# EAGLE library part MTFC (library micron)
4GB / 8GB, 2.7-3.6V e.MMC Flash This product family is compatible with JEDEC e.MMC 4.51 specification and is backwards compatible with previous e.MMC specifications. This product supports the HS200 speed mode and is available in 4GB - 8GB densities. Package options include 100 ball LBGA (14 x 18mm, 1.0mm ball pitch).
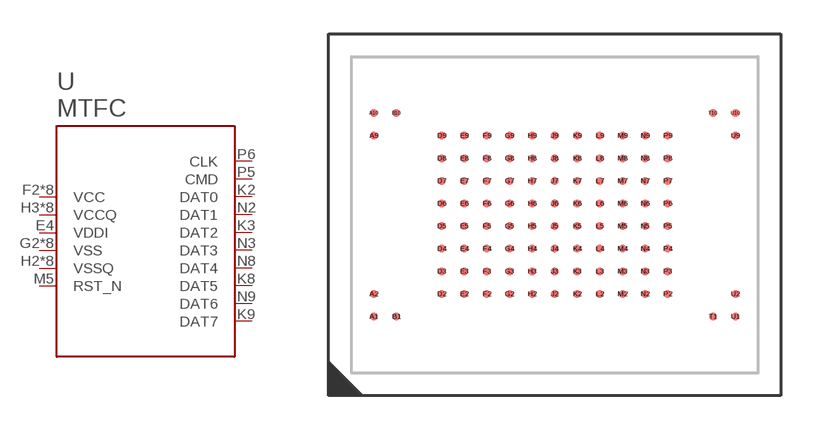
[diagram p0: symbol with the pads of LBGA-100-18X14; footprint LBGA-100-18X14]

Designator prefix U

## MTFCXGACAANA-4MIT  [LBGA-100-18X14]
E4  VDDI  pwr
F2  VCC  pwr
F3  VCC  pwr
F4  VCC  pwr
F5  VCC  pwr
F6  VCC  pwr
F7  VCC  pwr
F8  VCC  pwr
F9  VCC  pwr
G2  VSS  pwr
G3  VSS  pwr
G4  VSS  pwr
G5  VSS  pwr
G6  VSS  pwr
G7  VSS  pwr
G8  VSS  pwr
G9  VSS  pwr
H2  VSSQ  pwr
H3  VCCQ  pwr
H8  VCCQ  pwr
H9  VSSQ  pwr
K2  DAT0
K3  DAT2
K8  DAT5
K9  DAT7
L2  VCCQ  pwr
L3  VSSQ  pwr
L4  VCCQ  pwr
L7  VCCQ  pwr
L8  VSSQ  pwr
L9  VCCQ  pwr
M4  VSSQ  pwr
M5  RST_N  out
M7  VSSQ  pwr
N2  DAT1
N3  DAT3
N8  DAT4
N9  DAT6
P2  VSSQ  pwr
P3  VCCQ  pwr
P5  CMD
P6  CLK  out
P8  VCCQ  pwr
P9  VSSQ  pwr

## Footprint LBGA-100-18X14 (pad centres in mm)
LBGA-100 - Land Ball Grid Array (100-Pin)
smd 0.35 x 0.35: A1 -8,-4.5; A2 -8,-3.5; A9 -8,3.5; A10 -8,4.5; B1 -7,-4.5; B10 -7,4.5; D2 -5,-3.5; D3 -5,-2.5; D4 -5,-1.5; D5 -5,-0.5; D6 -5,0.5; D7 -5,1.5; D8 -5,2.5; D9 -5,3.5; E2 -4,-3.5; E3 -4,-2.5; E4 -4,-1.5; E5 -4,-0.5; E6 -4,0.5; E7 -4,1.5; E8 -4,2.5; E9 -4,3.5; F2 -3,-3.5; F3 -3,-2.5; F4 -3,-1.5; F5 -3,-0.5; F6 -3,0.5; F7 -3,1.5; F8 -3,2.5; F9 -3,3.5; G2 -2,-3.5; G3 -2,-2.5; G4 -2,-1.5; G5 -2,-0.5; G6 -2,0.5; G7 -2,1.5; G8 -2,2.5; G9 -2,3.5; H2 -1,-3.5; H3 -1,-2.5; H4 -1,-1.5; H5 -1,-0.5; H6 -1,0.5; H7 -1,1.5; H8 -1,2.5; H9 -1,3.5; J2 0,-3.5; J3 0,-2.5; J4 0,-1.5; J5 0,-0.5; J6 0,0.5; J7 0,1.5; J8 0,2.5; J9 0,3.5; K2 1,-3.5; K3 1,-2.5; K4 1,-1.5; K5 1,-0.5; K6 1,0.5; K7 1,1.5; K8 1,2.5; K9 1,3.5; L2 2,-3.5; L3 2,-2.5; L4 2,-1.5; L5 2,-0.5; L6 2,0.5; L7 2,1.5; L8 2,2.5; L9 2,3.5; M2 3,-3.5; M3 3,-2.5; M4 3,-1.5; M5 3,-0.5; M6 3,0.5; M7 3,1.5; M8 3,2.5; M9 3,3.5; N2 4,-3.5; N3 4,-2.5; N4 4,-1.5; N5 4,-0.5; N6 4,0.5; N7 4,1.5; N8 4,2.5; N9 4,3.5; P2 5,-3.5; P3 5,-2.5; P4 5,-1.5; P5 5,-0.5; P6 5,0.5; P7 5,1.5; P8 5,2.5; P9 5,3.5; T1 7,-4.5; T10 7,4.5; U1 8,-4.5; U2 8,-3.5; U9 8,3.5; U10 8,4.5